# Altium schematic symbol library BDC.SCHLIB: 2 symbols
Pins are listed as number, name and electrical type; pins without a type are passive.

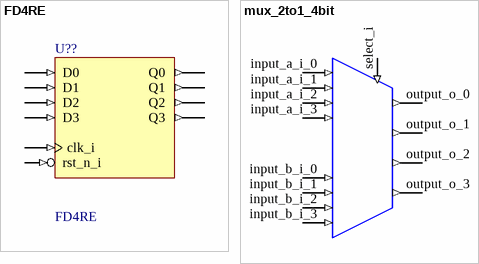
[diagram p0: symbols FD4RE to mux_2to1_4bit]

## FD4RE
designator U??
4-Bit Data Registers with Clock Enable and Synchronous Reset; FPGAVendor: CUPL; Published: 17/04/2002 5:24:18 PM; DatasheetDocument: 1999; Publisher: Altium Limited
pins: clk_i (in), D0 (in), D1 (in), D2 (in), D3 (in), D4 rst_n_i (in), Q0 (out), Q1 (out), Q2 (out), Q3 (out)

## mux_2to1_4bit
designator U?  (value not drawn)
2 to 1 Mux
pins: input_a_i_0 (in), input_a_i_1 (in), input_a_i_2 (in), input_a_i_3 (in), input_b_i_0 (in), input_b_i_1 (in), input_b_i_2 (in), input_b_i_3 (in), output_o_0 (out), output_o_1 (out), output_o_2 (out), output_o_3 (out), select_i (in)